# Altium schematic symbol library ADM485.SCHLIB: 1 symbol
Pins are listed as number, name and electrical type; pins without a type are passive.

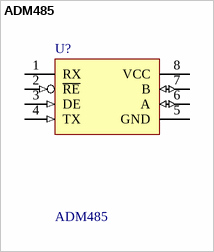
[diagram p0: symbol ADM485]

## ADM485
designator U?
RS-485 Transceiver; Назначение: Драйвер RS-485/; Потребление, Вт: До 1 Вт в режиме передачи; Наименование: ADM485
footprint SOIC-8
pins: 1 RX (hiz), 2 ~{RE} (in), 3 DE (in), 4 TX (in), 5 GND (power), 6 A (io), 7 B (io), 8 VCC (power)